# Altium schematic symbol library kmilo17pet-NSC_VoltageRef.SchLib: 796 symbols (part 15 of 20)
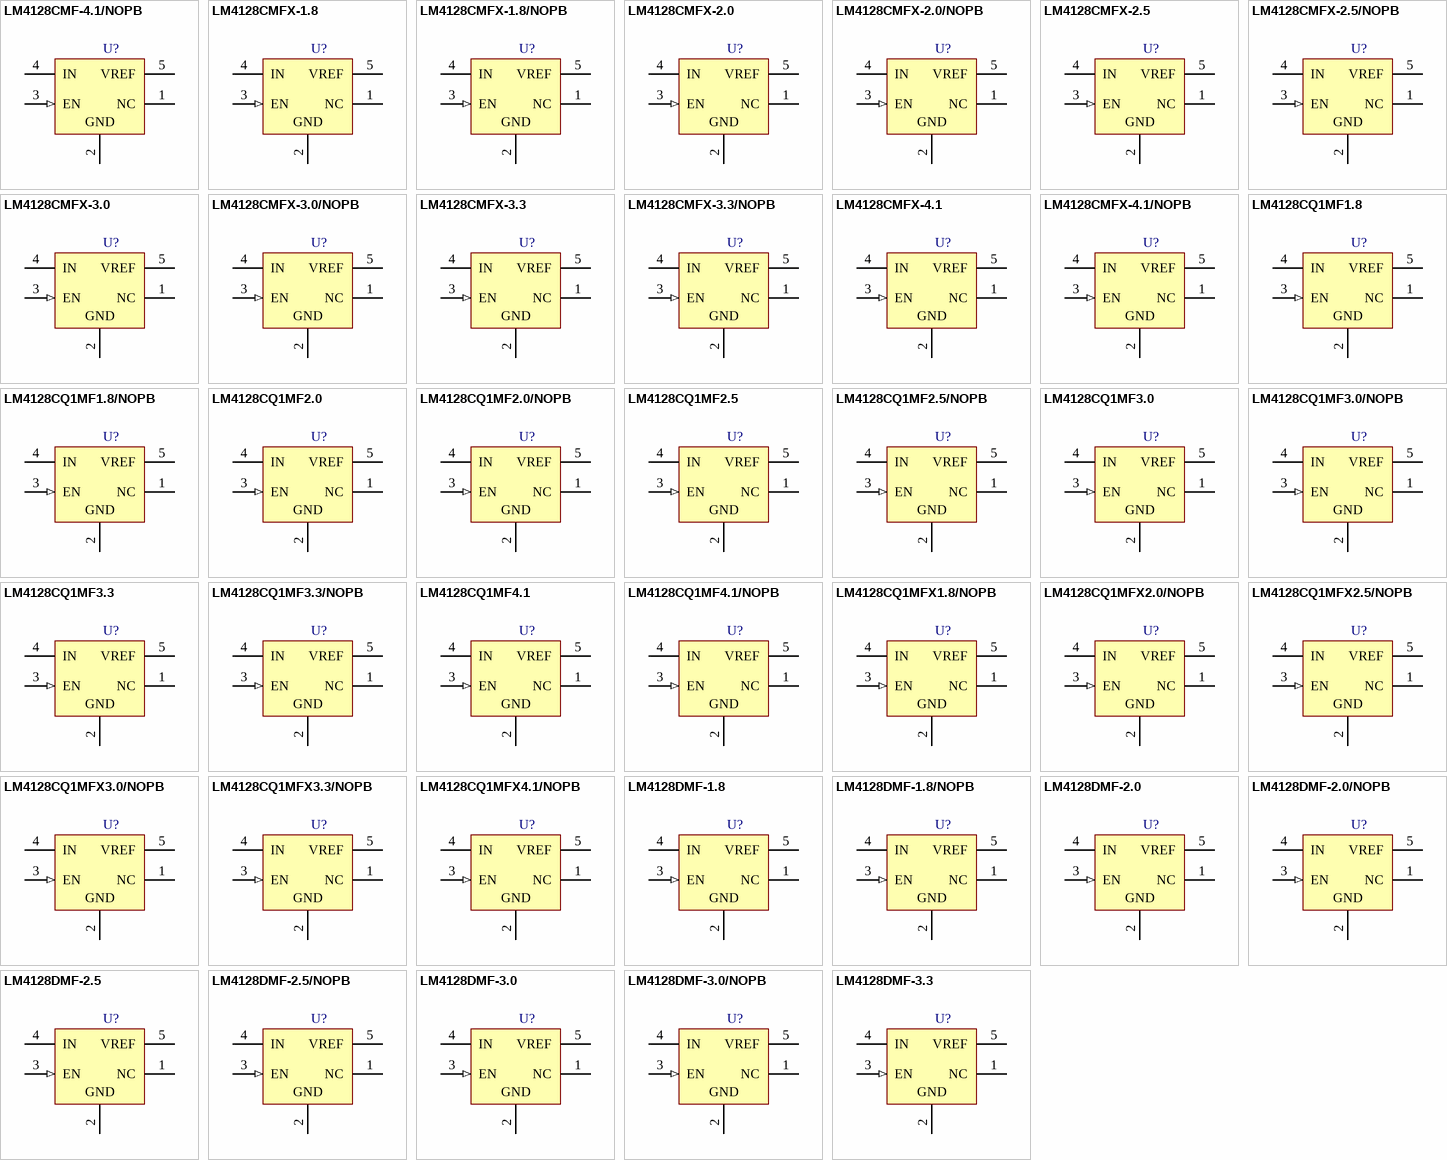
[diagram p34: symbols LM4128CMF-4.1/NOPB to LM4128DMF-3.3]

## LM4128CQ1MF2.0
designator U?
Precision Micropower Series Voltage Reference, 5-pin SOT-23; PartNumber: LM4128CQ1MF2.0; Manufacturer: National Semiconductor; PackageTopMarking: R6BC*XTT; PowerWise: N; CompType: Voltage Reference IC; DatasheetVersion: Feb-2009; PackageVersion: revD, Aug-2008; PackageReference: MF05A; PackageDescription: Molded SOT-23, .115 x .063 x .040 in Body, 5 Lead, .0375 in Pitch; RoHS: Y; PinCount: 5; ComponentLink1Description: Manufacturer URL; ComponentLink1URL: http://www.national.com/; ComponentLink2Description: LM4128 Datasheet; ComponentLink2URL: http://www.national.com/ds/LM/LM4128.pdf; ComponentLink3Description: LM4128 Web Page; ComponentLink3URL: http://www.national.com/pf/LM/LM4128.html; ComponentLink4Description: MF05A Package Page; ComponentLink4URL: http://www.national.com/packaging/folders/mf05a.html
footprint MF05A_N (SOT23, 5-Leads, Body 2.9x1.6mm, Pitch 0.95mm, Lead Span 2.8mm, IPC Medium Density)
footprint MF05A_L (SOT23, 5-Leads, Body 2.9x1.6mm, Pitch 0.95mm, Lead Span 2.8mm, IPC High Density)
footprint MF05A_M (SOT23, 5-Leads, Body 2.9x1.6mm, Pitch 0.95mm, Lead Span 2.8mm, IPC Low Density)
pins: 1 NC, 2 GND (power), 3 EN (in), 4 IN (power), 5 VREF (power)

## LM4128CQ1MF2.0/NOPB
designator U?
Precision Micropower Series Voltage Reference, 5-pin SOT-23, Pb-Free; PartNumber: LM4128CQ1MF2.0/NOPB; Manufacturer: National Semiconductor; PackageTopMarking: R6BC*XTT; PowerWise: N; CompType: Voltage Reference IC; DatasheetVersion: Feb-2009; PackageVersion: revD, Aug-2008; PackageReference: MF05A; PackageDescription: Molded SOT-23, .115 x .063 x .040 in Body, 5 Lead, .0375 in Pitch; RoHS: Y; PinCount: 5; ComponentLink1Description: Manufacturer URL; ComponentLink1URL: http://www.national.com/; ComponentLink2Description: LM4128 Datasheet; ComponentLink2URL: http://www.national.com/ds/LM/LM4128.pdf; ComponentLink3Description: LM4128 Web Page; ComponentLink3URL: http://www.national.com/pf/LM/LM4128.html; ComponentLink4Description: MF05A Package Page; ComponentLink4URL: http://www.national.com/packaging/folders/mf05a.html
footprint MF05A_N (SOT23, 5-Leads, Body 2.9x1.6mm, Pitch 0.95mm, Lead Span 2.8mm, IPC Medium Density)
footprint MF05A_L (SOT23, 5-Leads, Body 2.9x1.6mm, Pitch 0.95mm, Lead Span 2.8mm, IPC High Density)
footprint MF05A_M (SOT23, 5-Leads, Body 2.9x1.6mm, Pitch 0.95mm, Lead Span 2.8mm, IPC Low Density)
pins: 1 NC, 2 GND (power), 3 EN (in), 4 IN (power), 5 VREF (power)

## LM4128CQ1MF2.5
designator U?
Precision Micropower Series Voltage Reference, 5-pin SOT-23; PartNumber: LM4128CQ1MF2.5; Manufacturer: National Semiconductor; PackageTopMarking: R6CC*XTT; PowerWise: N; CompType: Voltage Reference IC; DatasheetVersion: Feb-2009; PackageVersion: revD, Aug-2008; PackageReference: MF05A; PackageDescription: Molded SOT-23, .115 x .063 x .040 in Body, 5 Lead, .0375 in Pitch; RoHS: Y; PinCount: 5; ComponentLink1Description: Manufacturer URL; ComponentLink1URL: http://www.national.com/; ComponentLink2Description: LM4128 Datasheet; ComponentLink2URL: http://www.national.com/ds/LM/LM4128.pdf; ComponentLink3Description: LM4128 Web Page; ComponentLink3URL: http://www.national.com/pf/LM/LM4128.html; ComponentLink4Description: MF05A Package Page; ComponentLink4URL: http://www.national.com/packaging/folders/mf05a.html
footprint MF05A_N (SOT23, 5-Leads, Body 2.9x1.6mm, Pitch 0.95mm, Lead Span 2.8mm, IPC Medium Density)
footprint MF05A_L (SOT23, 5-Leads, Body 2.9x1.6mm, Pitch 0.95mm, Lead Span 2.8mm, IPC High Density)
footprint MF05A_M (SOT23, 5-Leads, Body 2.9x1.6mm, Pitch 0.95mm, Lead Span 2.8mm, IPC Low Density)
pins: 1 NC, 2 GND (power), 3 EN (in), 4 IN (power), 5 VREF (power)

## LM4128CQ1MF2.5/NOPB
designator U?
Precision Micropower Series Voltage Reference, 5-pin SOT-23, Pb-Free; PartNumber: LM4128CQ1MF2.5/NOPB; Manufacturer: National Semiconductor; PackageTopMarking: R6CC*XTT; PowerWise: N; CompType: Voltage Reference IC; DatasheetVersion: Feb-2009; PackageVersion: revD, Aug-2008; PackageReference: MF05A; PackageDescription: Molded SOT-23, .115 x .063 x .040 in Body, 5 Lead, .0375 in Pitch; RoHS: Y; PinCount: 5; ComponentLink1Description: Manufacturer URL; ComponentLink1URL: http://www.national.com/; ComponentLink2Description: LM4128 Datasheet; ComponentLink2URL: http://www.national.com/ds/LM/LM4128.pdf; ComponentLink3Description: LM4128 Web Page; ComponentLink3URL: http://www.national.com/pf/LM/LM4128.html; ComponentLink4Description: MF05A Package Page; ComponentLink4URL: http://www.national.com/packaging/folders/mf05a.html
footprint MF05A_N (SOT23, 5-Leads, Body 2.9x1.6mm, Pitch 0.95mm, Lead Span 2.8mm, IPC Medium Density)
footprint MF05A_L (SOT23, 5-Leads, Body 2.9x1.6mm, Pitch 0.95mm, Lead Span 2.8mm, IPC High Density)
footprint MF05A_M (SOT23, 5-Leads, Body 2.9x1.6mm, Pitch 0.95mm, Lead Span 2.8mm, IPC Low Density)
pins: 1 NC, 2 GND (power), 3 EN (in), 4 IN (power), 5 VREF (power)

## LM4128CQ1MF3.0
designator U?
Precision Micropower Series Voltage Reference, 5-pin SOT-23; PartNumber: LM4128CQ1MF3.0; Manufacturer: National Semiconductor; PackageTopMarking: R6DC*XTT; PowerWise: N; CompType: Voltage Reference IC; DatasheetVersion: Feb-2009; PackageVersion: revD, Aug-2008; PackageReference: MF05A; PackageDescription: Molded SOT-23, .115 x .063 x .040 in Body, 5 Lead, .0375 in Pitch; RoHS: Y; PinCount: 5; ComponentLink1Description: Manufacturer URL; ComponentLink1URL: http://www.national.com/; ComponentLink2Description: LM4128 Datasheet; ComponentLink2URL: http://www.national.com/ds/LM/LM4128.pdf; ComponentLink3Description: LM4128 Web Page; ComponentLink3URL: http://www.national.com/pf/LM/LM4128.html; ComponentLink4Description: MF05A Package Page; ComponentLink4URL: http://www.national.com/packaging/folders/mf05a.html
footprint MF05A_N (SOT23, 5-Leads, Body 2.9x1.6mm, Pitch 0.95mm, Lead Span 2.8mm, IPC Medium Density)
footprint MF05A_L (SOT23, 5-Leads, Body 2.9x1.6mm, Pitch 0.95mm, Lead Span 2.8mm, IPC High Density)
footprint MF05A_M (SOT23, 5-Leads, Body 2.9x1.6mm, Pitch 0.95mm, Lead Span 2.8mm, IPC Low Density)
pins: 1 NC, 2 GND (power), 3 EN (in), 4 IN (power), 5 VREF (power)

## LM4128CQ1MF3.0/NOPB
designator U?
Precision Micropower Series Voltage Reference, 5-pin SOT-23, Pb-Free; PartNumber: LM4128CQ1MF3.0/NOPB; Manufacturer: National Semiconductor; PackageTopMarking: R6DC*XTT; PowerWise: N; CompType: Voltage Reference IC; DatasheetVersion: Feb-2009; PackageVersion: revD, Aug-2008; PackageReference: MF05A; PackageDescription: Molded SOT-23, .115 x .063 x .040 in Body, 5 Lead, .0375 in Pitch; RoHS: Y; PinCount: 5; ComponentLink1Description: Manufacturer URL; ComponentLink1URL: http://www.national.com/; ComponentLink2Description: LM4128 Datasheet; ComponentLink2URL: http://www.national.com/ds/LM/LM4128.pdf; ComponentLink3Description: LM4128 Web Page; ComponentLink3URL: http://www.national.com/pf/LM/LM4128.html; ComponentLink4Description: MF05A Package Page; ComponentLink4URL: http://www.national.com/packaging/folders/mf05a.html
footprint MF05A_N (SOT23, 5-Leads, Body 2.9x1.6mm, Pitch 0.95mm, Lead Span 2.8mm, IPC Medium Density)
footprint MF05A_L (SOT23, 5-Leads, Body 2.9x1.6mm, Pitch 0.95mm, Lead Span 2.8mm, IPC High Density)
footprint MF05A_M (SOT23, 5-Leads, Body 2.9x1.6mm, Pitch 0.95mm, Lead Span 2.8mm, IPC Low Density)
pins: 1 NC, 2 GND (power), 3 EN (in), 4 IN (power), 5 VREF (power)

## LM4128CQ1MF3.3
designator U?
Precision Micropower Series Voltage Reference, 5-pin SOT-23; PartNumber: LM4128CQ1MF3.3; Manufacturer: National Semiconductor; PackageTopMarking: R6EC*XTT; PowerWise: N; CompType: Voltage Reference IC; DatasheetVersion: Feb-2009; PackageVersion: revD, Aug-2008; PackageReference: MF05A; PackageDescription: Molded SOT-23, .115 x .063 x .040 in Body, 5 Lead, .0375 in Pitch; RoHS: Y; PinCount: 5; ComponentLink1Description: Manufacturer URL; ComponentLink1URL: http://www.national.com/; ComponentLink2Description: LM4128 Datasheet; ComponentLink2URL: http://www.national.com/ds/LM/LM4128.pdf; ComponentLink3Description: LM4128 Web Page; ComponentLink3URL: http://www.national.com/pf/LM/LM4128.html; ComponentLink4Description: MF05A Package Page; ComponentLink4URL: http://www.national.com/packaging/folders/mf05a.html
footprint MF05A_N (SOT23, 5-Leads, Body 2.9x1.6mm, Pitch 0.95mm, Lead Span 2.8mm, IPC Medium Density)
footprint MF05A_L (SOT23, 5-Leads, Body 2.9x1.6mm, Pitch 0.95mm, Lead Span 2.8mm, IPC High Density)
footprint MF05A_M (SOT23, 5-Leads, Body 2.9x1.6mm, Pitch 0.95mm, Lead Span 2.8mm, IPC Low Density)
pins: 1 NC, 2 GND (power), 3 EN (in), 4 IN (power), 5 VREF (power)

## LM4128CQ1MF3.3/NOPB
designator U?
Precision Micropower Series Voltage Reference, 5-pin SOT-23, Pb-Free; PartNumber: LM4128CQ1MF3.3/NOPB; Manufacturer: National Semiconductor; PackageTopMarking: R6EC*XTT; PowerWise: N; CompType: Voltage Reference IC; DatasheetVersion: Feb-2009; PackageVersion: revD, Aug-2008; PackageReference: MF05A; PackageDescription: Molded SOT-23, .115 x .063 x .040 in Body, 5 Lead, .0375 in Pitch; RoHS: Y; PinCount: 5; ComponentLink1Description: Manufacturer URL; ComponentLink1URL: http://www.national.com/; ComponentLink2Description: LM4128 Datasheet; ComponentLink2URL: http://www.national.com/ds/LM/LM4128.pdf; ComponentLink3Description: LM4128 Web Page; ComponentLink3URL: http://www.national.com/pf/LM/LM4128.html; ComponentLink4Description: MF05A Package Page; ComponentLink4URL: http://www.national.com/packaging/folders/mf05a.html
footprint MF05A_N (SOT23, 5-Leads, Body 2.9x1.6mm, Pitch 0.95mm, Lead Span 2.8mm, IPC Medium Density)
footprint MF05A_L (SOT23, 5-Leads, Body 2.9x1.6mm, Pitch 0.95mm, Lead Span 2.8mm, IPC High Density)
footprint MF05A_M (SOT23, 5-Leads, Body 2.9x1.6mm, Pitch 0.95mm, Lead Span 2.8mm, IPC Low Density)
pins: 1 NC, 2 GND (power), 3 EN (in), 4 IN (power), 5 VREF (power)

## LM4128CQ1MF4.1
designator U?
Precision Micropower Series Voltage Reference, 5-pin SOT-23; PartNumber: LM4128CQ1MF4.1; Manufacturer: National Semiconductor; PackageTopMarking: R6FC*XTT; PowerWise: N; CompType: Voltage Reference IC; DatasheetVersion: Feb-2009; PackageVersion: revD, Aug-2008; PackageReference: MF05A; PackageDescription: Molded SOT-23, .115 x .063 x .040 in Body, 5 Lead, .0375 in Pitch; RoHS: Y; PinCount: 5; ComponentLink1Description: Manufacturer URL; ComponentLink1URL: http://www.national.com/; ComponentLink2Description: LM4128 Datasheet; ComponentLink2URL: http://www.national.com/ds/LM/LM4128.pdf; ComponentLink3Description: LM4128 Web Page; ComponentLink3URL: http://www.national.com/pf/LM/LM4128.html; ComponentLink4Description: MF05A Package Page; ComponentLink4URL: http://www.national.com/packaging/folders/mf05a.html
footprint MF05A_N (SOT23, 5-Leads, Body 2.9x1.6mm, Pitch 0.95mm, Lead Span 2.8mm, IPC Medium Density)
footprint MF05A_L (SOT23, 5-Leads, Body 2.9x1.6mm, Pitch 0.95mm, Lead Span 2.8mm, IPC High Density)
footprint MF05A_M (SOT23, 5-Leads, Body 2.9x1.6mm, Pitch 0.95mm, Lead Span 2.8mm, IPC Low Density)
pins: 1 NC, 2 GND (power), 3 EN (in), 4 IN (power), 5 VREF (power)

## LM4128CQ1MF4.1/NOPB
designator U?
Precision Micropower Series Voltage Reference, 5-pin SOT-23, Pb-Free; PartNumber: LM4128CQ1MF4.1/NOPB; Manufacturer: National Semiconductor; PackageTopMarking: R6FC*XTT; PowerWise: N; CompType: Voltage Reference IC; DatasheetVersion: Feb-2009; PackageVersion: revD, Aug-2008; PackageReference: MF05A; PackageDescription: Molded SOT-23, .115 x .063 x .040 in Body, 5 Lead, .0375 in Pitch; RoHS: Y; PinCount: 5; ComponentLink1Description: Manufacturer URL; ComponentLink1URL: http://www.national.com/; ComponentLink2Description: LM4128 Datasheet; ComponentLink2URL: http://www.national.com/ds/LM/LM4128.pdf; ComponentLink3Description: LM4128 Web Page; ComponentLink3URL: http://www.national.com/pf/LM/LM4128.html; ComponentLink4Description: MF05A Package Page; ComponentLink4URL: http://www.national.com/packaging/folders/mf05a.html
footprint MF05A_N (SOT23, 5-Leads, Body 2.9x1.6mm, Pitch 0.95mm, Lead Span 2.8mm, IPC Medium Density)
footprint MF05A_L (SOT23, 5-Leads, Body 2.9x1.6mm, Pitch 0.95mm, Lead Span 2.8mm, IPC High Density)
footprint MF05A_M (SOT23, 5-Leads, Body 2.9x1.6mm, Pitch 0.95mm, Lead Span 2.8mm, IPC Low Density)
pins: 1 NC, 2 GND (power), 3 EN (in), 4 IN (power), 5 VREF (power)

## LM4128CQ1MFX1.8/NOPB
designator U?
Precision Micropower Series Voltage Reference, 5-pin SOT-23, Pb-Free; PartNumber: LM4128CQ1MFX1.8/NOPB; Manufacturer: National Semiconductor; PackageTopMarking: R6AC*XTT; PowerWise: N; CompType: Voltage Reference IC; DatasheetVersion: Feb-2009; PackageVersion: revD, Aug-2008; PackageReference: MF05A; PackageDescription: Molded SOT-23, .115 x .063 x .040 in Body, 5 Lead, .0375 in Pitch; RoHS: Y; PinCount: 5; ComponentLink1Description: Manufacturer URL; ComponentLink1URL: http://www.national.com/; ComponentLink2Description: LM4128 Datasheet; ComponentLink2URL: http://www.national.com/ds/LM/LM4128.pdf; ComponentLink3Description: LM4128 Web Page; ComponentLink3URL: http://www.national.com/pf/LM/LM4128.html; ComponentLink4Description: MF05A Package Page; ComponentLink4URL: http://www.national.com/packaging/folders/mf05a.html
footprint MF05A_N (SOT23, 5-Leads, Body 2.9x1.6mm, Pitch 0.95mm, Lead Span 2.8mm, IPC Medium Density)
footprint MF05A_L (SOT23, 5-Leads, Body 2.9x1.6mm, Pitch 0.95mm, Lead Span 2.8mm, IPC High Density)
footprint MF05A_M (SOT23, 5-Leads, Body 2.9x1.6mm, Pitch 0.95mm, Lead Span 2.8mm, IPC Low Density)
pins: 1 NC, 2 GND (power), 3 EN (in), 4 IN (power), 5 VREF (power)

## LM4128CQ1MFX2.0/NOPB
designator U?
Precision Micropower Series Voltage Reference, 5-pin SOT-23, Pb-Free; PartNumber: LM4128CQ1MFX2.0/NOPB; Manufacturer: National Semiconductor; PackageTopMarking: R6BC*XTT; PowerWise: N; CompType: Voltage Reference IC; DatasheetVersion: Feb-2009; PackageVersion: revD, Aug-2008; PackageReference: MF05A; PackageDescription: Molded SOT-23, .115 x .063 x .040 in Body, 5 Lead, .0375 in Pitch; RoHS: Y; PinCount: 5; ComponentLink1Description: Manufacturer URL; ComponentLink1URL: http://www.national.com/; ComponentLink2Description: LM4128 Datasheet; ComponentLink2URL: http://www.national.com/ds/LM/LM4128.pdf; ComponentLink3Description: LM4128 Web Page; ComponentLink3URL: http://www.national.com/pf/LM/LM4128.html; ComponentLink4Description: MF05A Package Page; ComponentLink4URL: http://www.national.com/packaging/folders/mf05a.html
footprint MF05A_N (SOT23, 5-Leads, Body 2.9x1.6mm, Pitch 0.95mm, Lead Span 2.8mm, IPC Medium Density)
footprint MF05A_L (SOT23, 5-Leads, Body 2.9x1.6mm, Pitch 0.95mm, Lead Span 2.8mm, IPC High Density)
footprint MF05A_M (SOT23, 5-Leads, Body 2.9x1.6mm, Pitch 0.95mm, Lead Span 2.8mm, IPC Low Density)
pins: 1 NC, 2 GND (power), 3 EN (in), 4 IN (power), 5 VREF (power)

## LM4128CQ1MFX2.5/NOPB
designator U?
Precision Micropower Series Voltage Reference, 5-pin SOT-23, Pb-Free; PartNumber: LM4128CQ1MFX2.5/NOPB; Manufacturer: National Semiconductor; PackageTopMarking: R6CC*XTT; PowerWise: N; CompType: Voltage Reference IC; DatasheetVersion: Feb-2009; PackageVersion: revD, Aug-2008; PackageReference: MF05A; PackageDescription: Molded SOT-23, .115 x .063 x .040 in Body, 5 Lead, .0375 in Pitch; RoHS: Y; PinCount: 5; ComponentLink1Description: Manufacturer URL; ComponentLink1URL: http://www.national.com/; ComponentLink2Description: LM4128 Datasheet; ComponentLink2URL: http://www.national.com/ds/LM/LM4128.pdf; ComponentLink3Description: LM4128 Web Page; ComponentLink3URL: http://www.national.com/pf/LM/LM4128.html; ComponentLink4Description: MF05A Package Page; ComponentLink4URL: http://www.national.com/packaging/folders/mf05a.html
footprint MF05A_N (SOT23, 5-Leads, Body 2.9x1.6mm, Pitch 0.95mm, Lead Span 2.8mm, IPC Medium Density)
footprint MF05A_L (SOT23, 5-Leads, Body 2.9x1.6mm, Pitch 0.95mm, Lead Span 2.8mm, IPC High Density)
footprint MF05A_M (SOT23, 5-Leads, Body 2.9x1.6mm, Pitch 0.95mm, Lead Span 2.8mm, IPC Low Density)
pins: 1 NC, 2 GND (power), 3 EN (in), 4 IN (power), 5 VREF (power)

## LM4128CQ1MFX3.0/NOPB
designator U?
Precision Micropower Series Voltage Reference, 5-pin SOT-23, Pb-Free; PartNumber: LM4128CQ1MFX3.0/NOPB; Manufacturer: National Semiconductor; PackageTopMarking: R6DC*XTT; PowerWise: N; CompType: Voltage Reference IC; DatasheetVersion: Feb-2009; PackageVersion: revD, Aug-2008; PackageReference: MF05A; PackageDescription: Molded SOT-23, .115 x .063 x .040 in Body, 5 Lead, .0375 in Pitch; RoHS: Y; PinCount: 5; ComponentLink1Description: Manufacturer URL; ComponentLink1URL: http://www.national.com/; ComponentLink2Description: LM4128 Datasheet; ComponentLink2URL: http://www.national.com/ds/LM/LM4128.pdf; ComponentLink3Description: LM4128 Web Page; ComponentLink3URL: http://www.national.com/pf/LM/LM4128.html; ComponentLink4Description: MF05A Package Page; ComponentLink4URL: http://www.national.com/packaging/folders/mf05a.html
footprint MF05A_N (SOT23, 5-Leads, Body 2.9x1.6mm, Pitch 0.95mm, Lead Span 2.8mm, IPC Medium Density)
footprint MF05A_L (SOT23, 5-Leads, Body 2.9x1.6mm, Pitch 0.95mm, Lead Span 2.8mm, IPC High Density)
footprint MF05A_M (SOT23, 5-Leads, Body 2.9x1.6mm, Pitch 0.95mm, Lead Span 2.8mm, IPC Low Density)
pins: 1 NC, 2 GND (power), 3 EN (in), 4 IN (power), 5 VREF (power)

## LM4128CQ1MFX3.3/NOPB
designator U?
Precision Micropower Series Voltage Reference, 5-pin SOT-23, Pb-Free; PartNumber: LM4128CQ1MFX3.3/NOPB; Manufacturer: National Semiconductor; PackageTopMarking: R6EC*XTT; PowerWise: N; CompType: Voltage Reference IC; DatasheetVersion: Feb-2009; PackageVersion: revD, Aug-2008; PackageReference: MF05A; PackageDescription: Molded SOT-23, .115 x .063 x .040 in Body, 5 Lead, .0375 in Pitch; RoHS: Y; PinCount: 5; ComponentLink1Description: Manufacturer URL; ComponentLink1URL: http://www.national.com/; ComponentLink2Description: LM4128 Datasheet; ComponentLink2URL: http://www.national.com/ds/LM/LM4128.pdf; ComponentLink3Description: LM4128 Web Page; ComponentLink3URL: http://www.national.com/pf/LM/LM4128.html; ComponentLink4Description: MF05A Package Page; ComponentLink4URL: http://www.national.com/packaging/folders/mf05a.html
footprint MF05A_N (SOT23, 5-Leads, Body 2.9x1.6mm, Pitch 0.95mm, Lead Span 2.8mm, IPC Medium Density)
footprint MF05A_L (SOT23, 5-Leads, Body 2.9x1.6mm, Pitch 0.95mm, Lead Span 2.8mm, IPC High Density)
footprint MF05A_M (SOT23, 5-Leads, Body 2.9x1.6mm, Pitch 0.95mm, Lead Span 2.8mm, IPC Low Density)
pins: 1 NC, 2 GND (power), 3 EN (in), 4 IN (power), 5 VREF (power)

## LM4128CQ1MFX4.1/NOPB
designator U?
Precision Micropower Series Voltage Reference, 5-pin SOT-23, Pb-Free; PartNumber: LM4128CQ1MFX4.1/NOPB; Manufacturer: National Semiconductor; PackageTopMarking: R6FC*XTT; PowerWise: N; CompType: Voltage Reference IC; DatasheetVersion: Feb-2009; PackageVersion: revD, Aug-2008; PackageReference: MF05A; PackageDescription: Molded SOT-23, .115 x .063 x .040 in Body, 5 Lead, .0375 in Pitch; RoHS: Y; PinCount: 5; ComponentLink1Description: Manufacturer URL; ComponentLink1URL: http://www.national.com/; ComponentLink2Description: LM4128 Datasheet; ComponentLink2URL: http://www.national.com/ds/LM/LM4128.pdf; ComponentLink3Description: LM4128 Web Page; ComponentLink3URL: http://www.national.com/pf/LM/LM4128.html; ComponentLink4Description: MF05A Package Page; ComponentLink4URL: http://www.national.com/packaging/folders/mf05a.html
footprint MF05A_N (SOT23, 5-Leads, Body 2.9x1.6mm, Pitch 0.95mm, Lead Span 2.8mm, IPC Medium Density)
footprint MF05A_L (SOT23, 5-Leads, Body 2.9x1.6mm, Pitch 0.95mm, Lead Span 2.8mm, IPC High Density)
footprint MF05A_M (SOT23, 5-Leads, Body 2.9x1.6mm, Pitch 0.95mm, Lead Span 2.8mm, IPC Low Density)
pins: 1 NC, 2 GND (power), 3 EN (in), 4 IN (power), 5 VREF (power)

## LM4128DMF-1.8
designator U?
Precision Micropower Series Voltage Reference, 5-pin SOT-23; PartNumber: LM4128DMF-1.8; Manufacturer: National Semiconductor; PackageTopMarking: R5AD*XTT; PowerWise: Y; CompType: Voltage Reference IC; DatasheetVersion: Nov-2006; PackageVersion: revD, Aug-2008; PackageReference: MF05A; PackageDescription: Molded SOT-23, .115 x .063 x .040 in Body, 5 Lead, .0375 in Pitch; RoHS: N; PinCount: 5; ComponentLink1Description: Manufacturer URL; ComponentLink1URL: http://www.national.com/; ComponentLink2Description: LM4128 Datasheet; ComponentLink2URL: http://www.national.com/ds/LM/LM4128.pdf; ComponentLink3Description: LM4128 Web Page; ComponentLink3URL: http://www.national.com/pf/LM/LM4128.html; ComponentLink4Description: MF05A Package Page; ComponentLink4URL: http://www.national.com/packaging/folders/mf05a.html
footprint MF05A_N (SOT23, 5-Leads, Body 2.9x1.6mm, Pitch 0.95mm, Lead Span 2.8mm, IPC Medium Density)
footprint MF05A_L (SOT23, 5-Leads, Body 2.9x1.6mm, Pitch 0.95mm, Lead Span 2.8mm, IPC High Density)
footprint MF05A_M (SOT23, 5-Leads, Body 2.9x1.6mm, Pitch 0.95mm, Lead Span 2.8mm, IPC Low Density)
pins: 1 NC, 2 GND (power), 3 EN (in), 4 IN (power), 5 VREF (power)

## LM4128DMF-1.8/NOPB
designator U?
Precision Micropower Series Voltage Reference, 5-pin SOT-23, Pb-Free; PartNumber: LM4128DMF-1.8/NOPB; Manufacturer: National Semiconductor; PackageTopMarking: R5AD*XTT; PowerWise: Y; CompType: Voltage Reference IC; DatasheetVersion: Nov-2006; PackageVersion: revD, Aug-2008; PackageReference: MF05A; PackageDescription: Molded SOT-23, .115 x .063 x .040 in Body, 5 Lead, .0375 in Pitch; RoHS: Y; PinCount: 5; ComponentLink1Description: Manufacturer URL; ComponentLink1URL: http://www.national.com/; ComponentLink2Description: LM4128 Datasheet; ComponentLink2URL: http://www.national.com/ds/LM/LM4128.pdf; ComponentLink3Description: LM4128 Web Page; ComponentLink3URL: http://www.national.com/pf/LM/LM4128.html; ComponentLink4Description: MF05A Package Page; ComponentLink4URL: http://www.national.com/packaging/folders/mf05a.html
footprint MF05A_N (SOT23, 5-Leads, Body 2.9x1.6mm, Pitch 0.95mm, Lead Span 2.8mm, IPC Medium Density)
footprint MF05A_L (SOT23, 5-Leads, Body 2.9x1.6mm, Pitch 0.95mm, Lead Span 2.8mm, IPC High Density)
footprint MF05A_M (SOT23, 5-Leads, Body 2.9x1.6mm, Pitch 0.95mm, Lead Span 2.8mm, IPC Low Density)
pins: 1 NC, 2 GND (power), 3 EN (in), 4 IN (power), 5 VREF (power)

## LM4128DMF-2.0
designator U?
Precision Micropower Series Voltage Reference, 5-pin SOT-23; PartNumber: LM4128DMF-2.0; Manufacturer: National Semiconductor; PackageTopMarking: R5BD*XTT; PowerWise: Y; CompType: Voltage Reference IC; DatasheetVersion: Nov-2006; PackageVersion: revD, Aug-2008; PackageReference: MF05A; PackageDescription: Molded SOT-23, .115 x .063 x .040 in Body, 5 Lead, .0375 in Pitch; RoHS: N; PinCount: 5; ComponentLink1Description: Manufacturer URL; ComponentLink1URL: http://www.national.com/; ComponentLink2Description: LM4128 Datasheet; ComponentLink2URL: http://www.national.com/ds/LM/LM4128.pdf; ComponentLink3Description: LM4128 Web Page; ComponentLink3URL: http://www.national.com/pf/LM/LM4128.html; ComponentLink4Description: MF05A Package Page; ComponentLink4URL: http://www.national.com/packaging/folders/mf05a.html
footprint MF05A_N (SOT23, 5-Leads, Body 2.9x1.6mm, Pitch 0.95mm, Lead Span 2.8mm, IPC Medium Density)
footprint MF05A_L (SOT23, 5-Leads, Body 2.9x1.6mm, Pitch 0.95mm, Lead Span 2.8mm, IPC High Density)
footprint MF05A_M (SOT23, 5-Leads, Body 2.9x1.6mm, Pitch 0.95mm, Lead Span 2.8mm, IPC Low Density)
pins: 1 NC, 2 GND (power), 3 EN (in), 4 IN (power), 5 VREF (power)

## LM4128DMF-2.0/NOPB
designator U?
Precision Micropower Series Voltage Reference, 5-pin SOT-23, Pb-Free; PartNumber: LM4128DMF-2.0/NOPB; Manufacturer: National Semiconductor; PackageTopMarking: R5BD*XTT; PowerWise: Y; CompType: Voltage Reference IC; DatasheetVersion: Nov-2006; PackageVersion: revD, Aug-2008; PackageReference: MF05A; PackageDescription: Molded SOT-23, .115 x .063 x .040 in Body, 5 Lead, .0375 in Pitch; RoHS: Y; PinCount: 5; ComponentLink1Description: Manufacturer URL; ComponentLink1URL: http://www.national.com/; ComponentLink2Description: LM4128 Datasheet; ComponentLink2URL: http://www.national.com/ds/LM/LM4128.pdf; ComponentLink3Description: LM4128 Web Page; ComponentLink3URL: http://www.national.com/pf/LM/LM4128.html; ComponentLink4Description: MF05A Package Page; ComponentLink4URL: http://www.national.com/packaging/folders/mf05a.html
footprint MF05A_N (SOT23, 5-Leads, Body 2.9x1.6mm, Pitch 0.95mm, Lead Span 2.8mm, IPC Medium Density)
footprint MF05A_L (SOT23, 5-Leads, Body 2.9x1.6mm, Pitch 0.95mm, Lead Span 2.8mm, IPC High Density)
footprint MF05A_M (SOT23, 5-Leads, Body 2.9x1.6mm, Pitch 0.95mm, Lead Span 2.8mm, IPC Low Density)
pins: 1 NC, 2 GND (power), 3 EN (in), 4 IN (power), 5 VREF (power)

## LM4128DMF-2.5
designator U?
Precision Micropower Series Voltage Reference, 5-pin SOT-23; PartNumber: LM4128DMF-2.5; Manufacturer: National Semiconductor; PackageTopMarking: R5CD*XTT; PowerWise: Y; CompType: Voltage Reference IC; DatasheetVersion: Nov-2006; PackageVersion: revD, Aug-2008; PackageReference: MF05A; PackageDescription: Molded SOT-23, .115 x .063 x .040 in Body, 5 Lead, .0375 in Pitch; RoHS: N; PinCount: 5; ComponentLink1Description: Manufacturer URL; ComponentLink1URL: http://www.national.com/; ComponentLink2Description: LM4128 Datasheet; ComponentLink2URL: http://www.national.com/ds/LM/LM4128.pdf; ComponentLink3Description: LM4128 Web Page; ComponentLink3URL: http://www.national.com/pf/LM/LM4128.html; ComponentLink4Description: MF05A Package Page; ComponentLink4URL: http://www.national.com/packaging/folders/mf05a.html
footprint MF05A_N (SOT23, 5-Leads, Body 2.9x1.6mm, Pitch 0.95mm, Lead Span 2.8mm, IPC Medium Density)
footprint MF05A_L (SOT23, 5-Leads, Body 2.9x1.6mm, Pitch 0.95mm, Lead Span 2.8mm, IPC High Density)
footprint MF05A_M (SOT23, 5-Leads, Body 2.9x1.6mm, Pitch 0.95mm, Lead Span 2.8mm, IPC Low Density)
pins: 1 NC, 2 GND (power), 3 EN (in), 4 IN (power), 5 VREF (power)

## LM4128DMF-2.5/NOPB
designator U?
Precision Micropower Series Voltage Reference, 5-pin SOT-23, Pb-Free; PartNumber: LM4128DMF-2.5/NOPB; Manufacturer: National Semiconductor; PackageTopMarking: R5CD*XTT; PowerWise: Y; CompType: Voltage Reference IC; DatasheetVersion: Nov-2006; PackageVersion: revD, Aug-2008; PackageReference: MF05A; PackageDescription: Molded SOT-23, .115 x .063 x .040 in Body, 5 Lead, .0375 in Pitch; RoHS: Y; PinCount: 5; ComponentLink1Description: Manufacturer URL; ComponentLink1URL: http://www.national.com/; ComponentLink2Description: LM4128 Datasheet; ComponentLink2URL: http://www.national.com/ds/LM/LM4128.pdf; ComponentLink3Description: LM4128 Web Page; ComponentLink3URL: http://www.national.com/pf/LM/LM4128.html; ComponentLink4Description: MF05A Package Page; ComponentLink4URL: http://www.national.com/packaging/folders/mf05a.html
footprint MF05A_N (SOT23, 5-Leads, Body 2.9x1.6mm, Pitch 0.95mm, Lead Span 2.8mm, IPC Medium Density)
footprint MF05A_L (SOT23, 5-Leads, Body 2.9x1.6mm, Pitch 0.95mm, Lead Span 2.8mm, IPC High Density)
footprint MF05A_M (SOT23, 5-Leads, Body 2.9x1.6mm, Pitch 0.95mm, Lead Span 2.8mm, IPC Low Density)
pins: 1 NC, 2 GND (power), 3 EN (in), 4 IN (power), 5 VREF (power)

## LM4128DMF-3.0
designator U?
Precision Micropower Series Voltage Reference, 5-pin SOT-23; PartNumber: LM4128DMF-3.0; Manufacturer: National Semiconductor; PackageTopMarking: R5DD*XTT; PowerWise: Y; CompType: Voltage Reference IC; DatasheetVersion: Nov-2006; PackageVersion: revD, Aug-2008; PackageReference: MF05A; PackageDescription: Molded SOT-23, .115 x .063 x .040 in Body, 5 Lead, .0375 in Pitch; RoHS: N; PinCount: 5; ComponentLink1Description: Manufacturer URL; ComponentLink1URL: http://www.national.com/; ComponentLink2Description: LM4128 Datasheet; ComponentLink2URL: http://www.national.com/ds/LM/LM4128.pdf; ComponentLink3Description: LM4128 Web Page; ComponentLink3URL: http://www.national.com/pf/LM/LM4128.html; ComponentLink4Description: MF05A Package Page; ComponentLink4URL: http://www.national.com/packaging/folders/mf05a.html
footprint MF05A_N (SOT23, 5-Leads, Body 2.9x1.6mm, Pitch 0.95mm, Lead Span 2.8mm, IPC Medium Density)
footprint MF05A_L (SOT23, 5-Leads, Body 2.9x1.6mm, Pitch 0.95mm, Lead Span 2.8mm, IPC High Density)
footprint MF05A_M (SOT23, 5-Leads, Body 2.9x1.6mm, Pitch 0.95mm, Lead Span 2.8mm, IPC Low Density)
pins: 1 NC, 2 GND (power), 3 EN (in), 4 IN (power), 5 VREF (power)

## LM4128DMF-3.0/NOPB
designator U?
Precision Micropower Series Voltage Reference, 5-pin SOT-23, Pb-Free; PartNumber: LM4128DMF-3.0/NOPB; Manufacturer: National Semiconductor; PackageTopMarking: R5DD*XTT; PowerWise: Y; CompType: Voltage Reference IC; DatasheetVersion: Nov-2006; PackageVersion: revD, Aug-2008; PackageReference: MF05A; PackageDescription: Molded SOT-23, .115 x .063 x .040 in Body, 5 Lead, .0375 in Pitch; RoHS: Y; PinCount: 5; ComponentLink1Description: Manufacturer URL; ComponentLink1URL: http://www.national.com/; ComponentLink2Description: LM4128 Datasheet; ComponentLink2URL: http://www.national.com/ds/LM/LM4128.pdf; ComponentLink3Description: LM4128 Web Page; ComponentLink3URL: http://www.national.com/pf/LM/LM4128.html; ComponentLink4Description: MF05A Package Page; ComponentLink4URL: http://www.national.com/packaging/folders/mf05a.html
footprint MF05A_N (SOT23, 5-Leads, Body 2.9x1.6mm, Pitch 0.95mm, Lead Span 2.8mm, IPC Medium Density)
footprint MF05A_L (SOT23, 5-Leads, Body 2.9x1.6mm, Pitch 0.95mm, Lead Span 2.8mm, IPC High Density)
footprint MF05A_M (SOT23, 5-Leads, Body 2.9x1.6mm, Pitch 0.95mm, Lead Span 2.8mm, IPC Low Density)
pins: 1 NC, 2 GND (power), 3 EN (in), 4 IN (power), 5 VREF (power)

## LM4128DMF-3.3
designator U?
Precision Micropower Series Voltage Reference, 5-pin SOT-23; PartNumber: LM4128DMF-3.3; Manufacturer: National Semiconductor; PackageTopMarking: R5ED*XTT; PowerWise: Y; CompType: Voltage Reference IC; DatasheetVersion: Nov-2006; PackageVersion: revD, Aug-2008; PackageReference: MF05A; PackageDescription: Molded SOT-23, .115 x .063 x .040 in Body, 5 Lead, .0375 in Pitch; RoHS: N; PinCount: 5; ComponentLink1Description: Manufacturer URL; ComponentLink1URL: http://www.national.com/; ComponentLink2Description: LM4128 Datasheet; ComponentLink2URL: http://www.national.com/ds/LM/LM4128.pdf; ComponentLink3Description: LM4128 Web Page; ComponentLink3URL: http://www.national.com/pf/LM/LM4128.html; ComponentLink4Description: MF05A Package Page; ComponentLink4URL: http://www.national.com/packaging/folders/mf05a.html
footprint MF05A_N (SOT23, 5-Leads, Body 2.9x1.6mm, Pitch 0.95mm, Lead Span 2.8mm, IPC Medium Density)
footprint MF05A_L (SOT23, 5-Leads, Body 2.9x1.6mm, Pitch 0.95mm, Lead Span 2.8mm, IPC High Density)
footprint MF05A_M (SOT23, 5-Leads, Body 2.9x1.6mm, Pitch 0.95mm, Lead Span 2.8mm, IPC Low Density)
pins: 1 NC, 2 GND (power), 3 EN (in), 4 IN (power), 5 VREF (power)

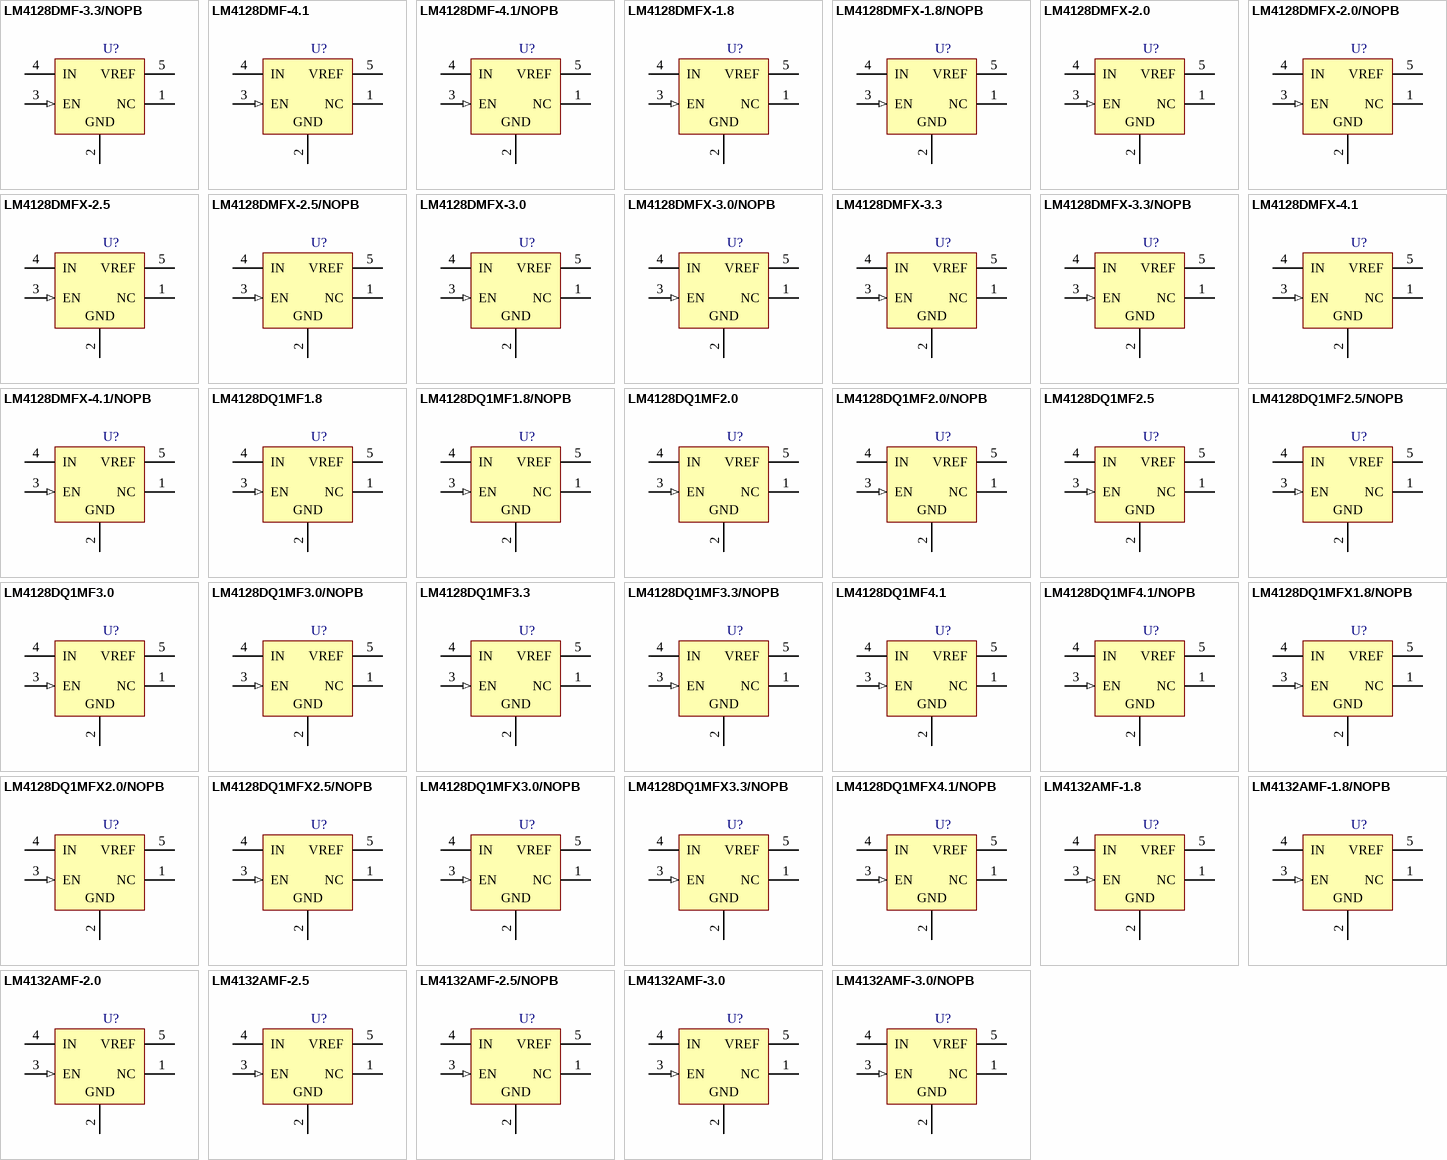
[diagram p16: symbols LM4128DMF-3.3/NOPB to LM4132AMF-3.0/NOPB]

## LM4128DMF-3.3/NOPB
designator U?
Precision Micropower Series Voltage Reference, 5-pin SOT-23, Pb-Free; PartNumber: LM4128DMF-3.3/NOPB; Manufacturer: National Semiconductor; PackageTopMarking: R5ED*XTT; PowerWise: Y; CompType: Voltage Reference IC; DatasheetVersion: Nov-2006; PackageVersion: revD, Aug-2008; PackageReference: MF05A; PackageDescription: Molded SOT-23, .115 x .063 x .040 in Body, 5 Lead, .0375 in Pitch; RoHS: Y; PinCount: 5; ComponentLink1Description: Manufacturer URL; ComponentLink1URL: http://www.national.com/; ComponentLink2Description: LM4128 Datasheet; ComponentLink2URL: http://www.national.com/ds/LM/LM4128.pdf; ComponentLink3Description: LM4128 Web Page; ComponentLink3URL: http://www.national.com/pf/LM/LM4128.html; ComponentLink4Description: MF05A Package Page; ComponentLink4URL: http://www.national.com/packaging/folders/mf05a.html
footprint MF05A_N (SOT23, 5-Leads, Body 2.9x1.6mm, Pitch 0.95mm, Lead Span 2.8mm, IPC Medium Density)
footprint MF05A_L (SOT23, 5-Leads, Body 2.9x1.6mm, Pitch 0.95mm, Lead Span 2.8mm, IPC High Density)
footprint MF05A_M (SOT23, 5-Leads, Body 2.9x1.6mm, Pitch 0.95mm, Lead Span 2.8mm, IPC Low Density)
pins: 1 NC, 2 GND (power), 3 EN (in), 4 IN (power), 5 VREF (power)

## LM4128DMF-4.1
designator U?
Precision Micropower Series Voltage Reference, 5-pin SOT-23; PartNumber: LM4128DMF-4.1; Manufacturer: National Semiconductor; PackageTopMarking: R5FD*XTT; PowerWise: Y; CompType: Voltage Reference IC; DatasheetVersion: Nov-2006; PackageVersion: revD, Aug-2008; PackageReference: MF05A; PackageDescription: Molded SOT-23, .115 x .063 x .040 in Body, 5 Lead, .0375 in Pitch; RoHS: N; PinCount: 5; ComponentLink1Description: Manufacturer URL; ComponentLink1URL: http://www.national.com/; ComponentLink2Description: LM4128 Datasheet; ComponentLink2URL: http://www.national.com/ds/LM/LM4128.pdf; ComponentLink3Description: LM4128 Web Page; ComponentLink3URL: http://www.national.com/pf/LM/LM4128.html; ComponentLink4Description: MF05A Package Page; ComponentLink4URL: http://www.national.com/packaging/folders/mf05a.html
footprint MF05A_N (SOT23, 5-Leads, Body 2.9x1.6mm, Pitch 0.95mm, Lead Span 2.8mm, IPC Medium Density)
footprint MF05A_L (SOT23, 5-Leads, Body 2.9x1.6mm, Pitch 0.95mm, Lead Span 2.8mm, IPC High Density)
footprint MF05A_M (SOT23, 5-Leads, Body 2.9x1.6mm, Pitch 0.95mm, Lead Span 2.8mm, IPC Low Density)
pins: 1 NC, 2 GND (power), 3 EN (in), 4 IN (power), 5 VREF (power)

## LM4128DMF-4.1/NOPB
designator U?
Precision Micropower Series Voltage Reference, 5-pin SOT-23, Pb-Free; PartNumber: LM4128DMF-4.1/NOPB; Manufacturer: National Semiconductor; PackageTopMarking: R5FD*XTT; PowerWise: Y; CompType: Voltage Reference IC; DatasheetVersion: Nov-2006; PackageVersion: revD, Aug-2008; PackageReference: MF05A; PackageDescription: Molded SOT-23, .115 x .063 x .040 in Body, 5 Lead, .0375 in Pitch; RoHS: Y; PinCount: 5; ComponentLink1Description: Manufacturer URL; ComponentLink1URL: http://www.national.com/; ComponentLink2Description: LM4128 Datasheet; ComponentLink2URL: http://www.national.com/ds/LM/LM4128.pdf; ComponentLink3Description: LM4128 Web Page; ComponentLink3URL: http://www.national.com/pf/LM/LM4128.html; ComponentLink4Description: MF05A Package Page; ComponentLink4URL: http://www.national.com/packaging/folders/mf05a.html
footprint MF05A_N (SOT23, 5-Leads, Body 2.9x1.6mm, Pitch 0.95mm, Lead Span 2.8mm, IPC Medium Density)
footprint MF05A_L (SOT23, 5-Leads, Body 2.9x1.6mm, Pitch 0.95mm, Lead Span 2.8mm, IPC High Density)
footprint MF05A_M (SOT23, 5-Leads, Body 2.9x1.6mm, Pitch 0.95mm, Lead Span 2.8mm, IPC Low Density)
pins: 1 NC, 2 GND (power), 3 EN (in), 4 IN (power), 5 VREF (power)

## LM4128DMFX-1.8
designator U?
Precision Micropower Series Voltage Reference, 5-pin SOT-23; PartNumber: LM4128DMFX-1.8; Manufacturer: National Semiconductor; PackageTopMarking: R5AD*XTT; PowerWise: Y; CompType: Voltage Reference IC; DatasheetVersion: Nov-2006; PackageVersion: revD, Aug-2008; PackageReference: MF05A; PackageDescription: Molded SOT-23, .115 x .063 x .040 in Body, 5 Lead, .0375 in Pitch; RoHS: N; PinCount: 5; ComponentLink1Description: Manufacturer URL; ComponentLink1URL: http://www.national.com/; ComponentLink2Description: LM4128 Datasheet; ComponentLink2URL: http://www.national.com/ds/LM/LM4128.pdf; ComponentLink3Description: LM4128 Web Page; ComponentLink3URL: http://www.national.com/pf/LM/LM4128.html; ComponentLink4Description: MF05A Package Page; ComponentLink4URL: http://www.national.com/packaging/folders/mf05a.html
footprint MF05A_N (SOT23, 5-Leads, Body 2.9x1.6mm, Pitch 0.95mm, Lead Span 2.8mm, IPC Medium Density)
footprint MF05A_L (SOT23, 5-Leads, Body 2.9x1.6mm, Pitch 0.95mm, Lead Span 2.8mm, IPC High Density)
footprint MF05A_M (SOT23, 5-Leads, Body 2.9x1.6mm, Pitch 0.95mm, Lead Span 2.8mm, IPC Low Density)
pins: 1 NC, 2 GND (power), 3 EN (in), 4 IN (power), 5 VREF (power)

## LM4128DMFX-1.8/NOPB
designator U?
Precision Micropower Series Voltage Reference, 5-pin SOT-23, Pb-Free; PartNumber: LM4128DMFX-1.8/NOPB; Manufacturer: National Semiconductor; PackageTopMarking: R5AD*XTT; PowerWise: Y; CompType: Voltage Reference IC; DatasheetVersion: Nov-2006; PackageVersion: revD, Aug-2008; PackageReference: MF05A; PackageDescription: Molded SOT-23, .115 x .063 x .040 in Body, 5 Lead, .0375 in Pitch; RoHS: Y; PinCount: 5; ComponentLink1Description: Manufacturer URL; ComponentLink1URL: http://www.national.com/; ComponentLink2Description: LM4128 Datasheet; ComponentLink2URL: http://www.national.com/ds/LM/LM4128.pdf; ComponentLink3Description: LM4128 Web Page; ComponentLink3URL: http://www.national.com/pf/LM/LM4128.html; ComponentLink4Description: MF05A Package Page; ComponentLink4URL: http://www.national.com/packaging/folders/mf05a.html
footprint MF05A_N (SOT23, 5-Leads, Body 2.9x1.6mm, Pitch 0.95mm, Lead Span 2.8mm, IPC Medium Density)
footprint MF05A_L (SOT23, 5-Leads, Body 2.9x1.6mm, Pitch 0.95mm, Lead Span 2.8mm, IPC High Density)
footprint MF05A_M (SOT23, 5-Leads, Body 2.9x1.6mm, Pitch 0.95mm, Lead Span 2.8mm, IPC Low Density)
pins: 1 NC, 2 GND (power), 3 EN (in), 4 IN (power), 5 VREF (power)

## LM4128DMFX-2.0
designator U?
Precision Micropower Series Voltage Reference, 5-pin SOT-23; PartNumber: LM4128DMFX-2.0; Manufacturer: National Semiconductor; PackageTopMarking: R5BD*XTT; PowerWise: Y; CompType: Voltage Reference IC; DatasheetVersion: Nov-2006; PackageVersion: revD, Aug-2008; PackageReference: MF05A; PackageDescription: Molded SOT-23, .115 x .063 x .040 in Body, 5 Lead, .0375 in Pitch; RoHS: N; PinCount: 5; ComponentLink1Description: Manufacturer URL; ComponentLink1URL: http://www.national.com/; ComponentLink2Description: LM4128 Datasheet; ComponentLink2URL: http://www.national.com/ds/LM/LM4128.pdf; ComponentLink3Description: LM4128 Web Page; ComponentLink3URL: http://www.national.com/pf/LM/LM4128.html; ComponentLink4Description: MF05A Package Page; ComponentLink4URL: http://www.national.com/packaging/folders/mf05a.html
footprint MF05A_N (SOT23, 5-Leads, Body 2.9x1.6mm, Pitch 0.95mm, Lead Span 2.8mm, IPC Medium Density)
footprint MF05A_L (SOT23, 5-Leads, Body 2.9x1.6mm, Pitch 0.95mm, Lead Span 2.8mm, IPC High Density)
footprint MF05A_M (SOT23, 5-Leads, Body 2.9x1.6mm, Pitch 0.95mm, Lead Span 2.8mm, IPC Low Density)
pins: 1 NC, 2 GND (power), 3 EN (in), 4 IN (power), 5 VREF (power)

## LM4128DMFX-2.0/NOPB
designator U?
Precision Micropower Series Voltage Reference, 5-pin SOT-23, Pb-Free; PartNumber: LM4128DMFX-2.0/NOPB; Manufacturer: National Semiconductor; PackageTopMarking: R5BD*XTT; PowerWise: Y; CompType: Voltage Reference IC; DatasheetVersion: Nov-2006; PackageVersion: revD, Aug-2008; PackageReference: MF05A; PackageDescription: Molded SOT-23, .115 x .063 x .040 in Body, 5 Lead, .0375 in Pitch; RoHS: Y; PinCount: 5; ComponentLink1Description: Manufacturer URL; ComponentLink1URL: http://www.national.com/; ComponentLink2Description: LM4128 Datasheet; ComponentLink2URL: http://www.national.com/ds/LM/LM4128.pdf; ComponentLink3Description: LM4128 Web Page; ComponentLink3URL: http://www.national.com/pf/LM/LM4128.html; ComponentLink4Description: MF05A Package Page; ComponentLink4URL: http://www.national.com/packaging/folders/mf05a.html
footprint MF05A_N (SOT23, 5-Leads, Body 2.9x1.6mm, Pitch 0.95mm, Lead Span 2.8mm, IPC Medium Density)
footprint MF05A_L (SOT23, 5-Leads, Body 2.9x1.6mm, Pitch 0.95mm, Lead Span 2.8mm, IPC High Density)
footprint MF05A_M (SOT23, 5-Leads, Body 2.9x1.6mm, Pitch 0.95mm, Lead Span 2.8mm, IPC Low Density)
pins: 1 NC, 2 GND (power), 3 EN (in), 4 IN (power), 5 VREF (power)

## LM4128DMFX-2.5
designator U?
Precision Micropower Series Voltage Reference, 5-pin SOT-23; PartNumber: LM4128DMFX-2.5; Manufacturer: National Semiconductor; PackageTopMarking: R5CD*XTT; PowerWise: Y; CompType: Voltage Reference IC; DatasheetVersion: Nov-2006; PackageVersion: revD, Aug-2008; PackageReference: MF05A; PackageDescription: Molded SOT-23, .115 x .063 x .040 in Body, 5 Lead, .0375 in Pitch; RoHS: N; PinCount: 5; ComponentLink1Description: Manufacturer URL; ComponentLink1URL: http://www.national.com/; ComponentLink2Description: LM4128 Datasheet; ComponentLink2URL: http://www.national.com/ds/LM/LM4128.pdf; ComponentLink3Description: LM4128 Web Page; ComponentLink3URL: http://www.national.com/pf/LM/LM4128.html; ComponentLink4Description: MF05A Package Page; ComponentLink4URL: http://www.national.com/packaging/folders/mf05a.html
footprint MF05A_N (SOT23, 5-Leads, Body 2.9x1.6mm, Pitch 0.95mm, Lead Span 2.8mm, IPC Medium Density)
footprint MF05A_L (SOT23, 5-Leads, Body 2.9x1.6mm, Pitch 0.95mm, Lead Span 2.8mm, IPC High Density)
footprint MF05A_M (SOT23, 5-Leads, Body 2.9x1.6mm, Pitch 0.95mm, Lead Span 2.8mm, IPC Low Density)
pins: 1 NC, 2 GND (power), 3 EN (in), 4 IN (power), 5 VREF (power)

## LM4128DMFX-2.5/NOPB
designator U?
Precision Micropower Series Voltage Reference, 5-pin SOT-23, Pb-Free; PartNumber: LM4128DMFX-2.5/NOPB; Manufacturer: National Semiconductor; PackageTopMarking: R5CD*XTT; PowerWise: Y; CompType: Voltage Reference IC; DatasheetVersion: Nov-2006; PackageVersion: revD, Aug-2008; PackageReference: MF05A; PackageDescription: Molded SOT-23, .115 x .063 x .040 in Body, 5 Lead, .0375 in Pitch; RoHS: Y; PinCount: 5; ComponentLink1Description: Manufacturer URL; ComponentLink1URL: http://www.national.com/; ComponentLink2Description: LM4128 Datasheet; ComponentLink2URL: http://www.national.com/ds/LM/LM4128.pdf; ComponentLink3Description: LM4128 Web Page; ComponentLink3URL: http://www.national.com/pf/LM/LM4128.html; ComponentLink4Description: MF05A Package Page; ComponentLink4URL: http://www.national.com/packaging/folders/mf05a.html
footprint MF05A_N (SOT23, 5-Leads, Body 2.9x1.6mm, Pitch 0.95mm, Lead Span 2.8mm, IPC Medium Density)
footprint MF05A_L (SOT23, 5-Leads, Body 2.9x1.6mm, Pitch 0.95mm, Lead Span 2.8mm, IPC High Density)
footprint MF05A_M (SOT23, 5-Leads, Body 2.9x1.6mm, Pitch 0.95mm, Lead Span 2.8mm, IPC Low Density)
pins: 1 NC, 2 GND (power), 3 EN (in), 4 IN (power), 5 VREF (power)

## LM4128DMFX-3.0
designator U?
Precision Micropower Series Voltage Reference, 5-pin SOT-23; PartNumber: LM4128DMFX-3.0; Manufacturer: National Semiconductor; PackageTopMarking: R5DD*XTT; PowerWise: Y; CompType: Voltage Reference IC; DatasheetVersion: Nov-2006; PackageVersion: revD, Aug-2008; PackageReference: MF05A; PackageDescription: Molded SOT-23, .115 x .063 x .040 in Body, 5 Lead, .0375 in Pitch; RoHS: N; PinCount: 5; ComponentLink1Description: Manufacturer URL; ComponentLink1URL: http://www.national.com/; ComponentLink2Description: LM4128 Datasheet; ComponentLink2URL: http://www.national.com/ds/LM/LM4128.pdf; ComponentLink3Description: LM4128 Web Page; ComponentLink3URL: http://www.national.com/pf/LM/LM4128.html; ComponentLink4Description: MF05A Package Page; ComponentLink4URL: http://www.national.com/packaging/folders/mf05a.html
footprint MF05A_N (SOT23, 5-Leads, Body 2.9x1.6mm, Pitch 0.95mm, Lead Span 2.8mm, IPC Medium Density)
footprint MF05A_L (SOT23, 5-Leads, Body 2.9x1.6mm, Pitch 0.95mm, Lead Span 2.8mm, IPC High Density)
footprint MF05A_M (SOT23, 5-Leads, Body 2.9x1.6mm, Pitch 0.95mm, Lead Span 2.8mm, IPC Low Density)
pins: 1 NC, 2 GND (power), 3 EN (in), 4 IN (power), 5 VREF (power)

## LM4128DMFX-3.0/NOPB
designator U?
Precision Micropower Series Voltage Reference, 5-pin SOT-23, Pb-Free; PartNumber: LM4128DMFX-3.0/NOPB; Manufacturer: National Semiconductor; PackageTopMarking: R5DD*XTT; PowerWise: Y; CompType: Voltage Reference IC; DatasheetVersion: Nov-2006; PackageVersion: revD, Aug-2008; PackageReference: MF05A; PackageDescription: Molded SOT-23, .115 x .063 x .040 in Body, 5 Lead, .0375 in Pitch; RoHS: Y; PinCount: 5; ComponentLink1Description: Manufacturer URL; ComponentLink1URL: http://www.national.com/; ComponentLink2Description: LM4128 Datasheet; ComponentLink2URL: http://www.national.com/ds/LM/LM4128.pdf; ComponentLink3Description: LM4128 Web Page; ComponentLink3URL: http://www.national.com/pf/LM/LM4128.html; ComponentLink4Description: MF05A Package Page; ComponentLink4URL: http://www.national.com/packaging/folders/mf05a.html
footprint MF05A_N (SOT23, 5-Leads, Body 2.9x1.6mm, Pitch 0.95mm, Lead Span 2.8mm, IPC Medium Density)
footprint MF05A_L (SOT23, 5-Leads, Body 2.9x1.6mm, Pitch 0.95mm, Lead Span 2.8mm, IPC High Density)
footprint MF05A_M (SOT23, 5-Leads, Body 2.9x1.6mm, Pitch 0.95mm, Lead Span 2.8mm, IPC Low Density)
pins: 1 NC, 2 GND (power), 3 EN (in), 4 IN (power), 5 VREF (power)

## LM4128DMFX-3.3
designator U?
Precision Micropower Series Voltage Reference, 5-pin SOT-23; PartNumber: LM4128DMFX-3.3; Manufacturer: National Semiconductor; PackageTopMarking: R5ED*XTT; PowerWise: Y; CompType: Voltage Reference IC; DatasheetVersion: Nov-2006; PackageVersion: revD, Aug-2008; PackageReference: MF05A; PackageDescription: Molded SOT-23, .115 x .063 x .040 in Body, 5 Lead, .0375 in Pitch; RoHS: N; PinCount: 5; ComponentLink1Description: Manufacturer URL; ComponentLink1URL: http://www.national.com/; ComponentLink2Description: LM4128 Datasheet; ComponentLink2URL: http://www.national.com/ds/LM/LM4128.pdf; ComponentLink3Description: LM4128 Web Page; ComponentLink3URL: http://www.national.com/pf/LM/LM4128.html; ComponentLink4Description: MF05A Package Page; ComponentLink4URL: http://www.national.com/packaging/folders/mf05a.html
footprint MF05A_N (SOT23, 5-Leads, Body 2.9x1.6mm, Pitch 0.95mm, Lead Span 2.8mm, IPC Medium Density)
footprint MF05A_L (SOT23, 5-Leads, Body 2.9x1.6mm, Pitch 0.95mm, Lead Span 2.8mm, IPC High Density)
footprint MF05A_M (SOT23, 5-Leads, Body 2.9x1.6mm, Pitch 0.95mm, Lead Span 2.8mm, IPC Low Density)
pins: 1 NC, 2 GND (power), 3 EN (in), 4 IN (power), 5 VREF (power)

## LM4128DMFX-3.3/NOPB
designator U?
Precision Micropower Series Voltage Reference, 5-pin SOT-23, Pb-Free; PartNumber: LM4128DMFX-3.3/NOPB; Manufacturer: National Semiconductor; PackageTopMarking: R5ED*XTT; PowerWise: Y; CompType: Voltage Reference IC; DatasheetVersion: Nov-2006; PackageVersion: revD, Aug-2008; PackageReference: MF05A; PackageDescription: Molded SOT-23, .115 x .063 x .040 in Body, 5 Lead, .0375 in Pitch; RoHS: Y; PinCount: 5; ComponentLink1Description: Manufacturer URL; ComponentLink1URL: http://www.national.com/; ComponentLink2Description: LM4128 Datasheet; ComponentLink2URL: http://www.national.com/ds/LM/LM4128.pdf; ComponentLink3Description: LM4128 Web Page; ComponentLink3URL: http://www.national.com/pf/LM/LM4128.html; ComponentLink4Description: MF05A Package Page; ComponentLink4URL: http://www.national.com/packaging/folders/mf05a.html
footprint MF05A_N (SOT23, 5-Leads, Body 2.9x1.6mm, Pitch 0.95mm, Lead Span 2.8mm, IPC Medium Density)
footprint MF05A_L (SOT23, 5-Leads, Body 2.9x1.6mm, Pitch 0.95mm, Lead Span 2.8mm, IPC High Density)
footprint MF05A_M (SOT23, 5-Leads, Body 2.9x1.6mm, Pitch 0.95mm, Lead Span 2.8mm, IPC Low Density)
pins: 1 NC, 2 GND (power), 3 EN (in), 4 IN (power), 5 VREF (power)

## LM4128DMFX-4.1
designator U?
Precision Micropower Series Voltage Reference, 5-pin SOT-23; PartNumber: LM4128DMFX-4.1; Manufacturer: National Semiconductor; PackageTopMarking: R5FD*XTT; PowerWise: Y; CompType: Voltage Reference IC; DatasheetVersion: Nov-2006; PackageVersion: revD, Aug-2008; PackageReference: MF05A; PackageDescription: Molded SOT-23, .115 x .063 x .040 in Body, 5 Lead, .0375 in Pitch; RoHS: N; PinCount: 5; ComponentLink1Description: Manufacturer URL; ComponentLink1URL: http://www.national.com/; ComponentLink2Description: LM4128 Datasheet; ComponentLink2URL: http://www.national.com/ds/LM/LM4128.pdf; ComponentLink3Description: LM4128 Web Page; ComponentLink3URL: http://www.national.com/pf/LM/LM4128.html; ComponentLink4Description: MF05A Package Page; ComponentLink4URL: http://www.national.com/packaging/folders/mf05a.html
footprint MF05A_N (SOT23, 5-Leads, Body 2.9x1.6mm, Pitch 0.95mm, Lead Span 2.8mm, IPC Medium Density)
footprint MF05A_L (SOT23, 5-Leads, Body 2.9x1.6mm, Pitch 0.95mm, Lead Span 2.8mm, IPC High Density)
footprint MF05A_M (SOT23, 5-Leads, Body 2.9x1.6mm, Pitch 0.95mm, Lead Span 2.8mm, IPC Low Density)
pins: 1 NC, 2 GND (power), 3 EN (in), 4 IN (power), 5 VREF (power)

## LM4128DMFX-4.1/NOPB
designator U?
Precision Micropower Series Voltage Reference, 5-pin SOT-23, Pb-Free; PartNumber: LM4128DMFX-4.1/NOPB; Manufacturer: National Semiconductor; PackageTopMarking: R5FD*XTT; PowerWise: Y; CompType: Voltage Reference IC; DatasheetVersion: Nov-2006; PackageVersion: revD, Aug-2008; PackageReference: MF05A; PackageDescription: Molded SOT-23, .115 x .063 x .040 in Body, 5 Lead, .0375 in Pitch; RoHS: Y; PinCount: 5; ComponentLink1Description: Manufacturer URL; ComponentLink1URL: http://www.national.com/; ComponentLink2Description: LM4128 Datasheet; ComponentLink2URL: http://www.national.com/ds/LM/LM4128.pdf; ComponentLink3Description: LM4128 Web Page; ComponentLink3URL: http://www.national.com/pf/LM/LM4128.html; ComponentLink4Description: MF05A Package Page; ComponentLink4URL: http://www.national.com/packaging/folders/mf05a.html
footprint MF05A_N (SOT23, 5-Leads, Body 2.9x1.6mm, Pitch 0.95mm, Lead Span 2.8mm, IPC Medium Density)
footprint MF05A_L (SOT23, 5-Leads, Body 2.9x1.6mm, Pitch 0.95mm, Lead Span 2.8mm, IPC High Density)
footprint MF05A_M (SOT23, 5-Leads, Body 2.9x1.6mm, Pitch 0.95mm, Lead Span 2.8mm, IPC Low Density)
pins: 1 NC, 2 GND (power), 3 EN (in), 4 IN (power), 5 VREF (power)